# EAGLE library part SN74AHCT16373DGGR (library MM24I)
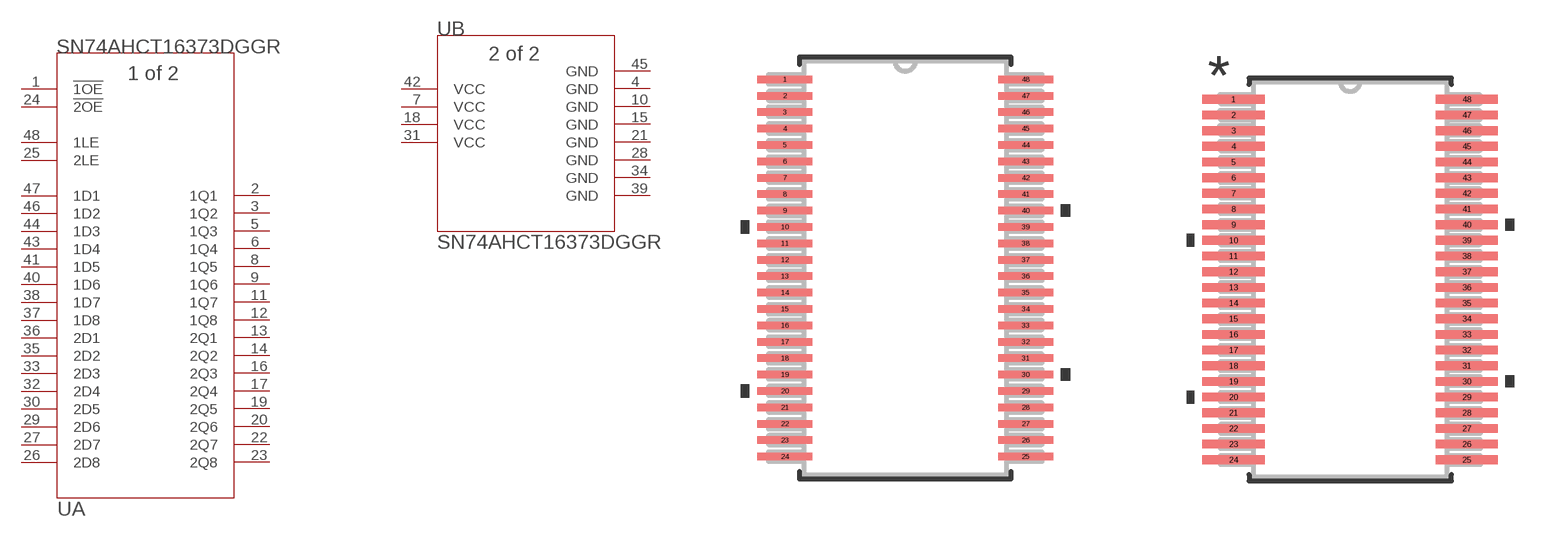
[diagram p1: symbol with the pads of DGG48; footprints DGG48, DGG48-M]

Designator prefix U; gates A=SN74AHCT16373DGGR B=SN74AHCT16373DGGR_A

## SN74AHCT16373DGGR (BUILT_BY: EMA_UL_Team; MANUFACTURER: Texas Instruments; MANUFACTURER_PART_NUMBER: SN74AHCT16373DGGR; VENDOR: Texas Instruments)  [DGG48]
1  A:!1OE  in
2  A:1Q1  out
3  A:1Q2  out
4  B:GND  pwr
5  A:1Q3  out
6  A:1Q4  out
7  B:VCC  pwr
8  A:1Q5  out
9  A:1Q6  out
10  B:GND  pwr
11  A:1Q7  out
12  A:1Q8  out
13  A:2Q1  out
14  A:2Q2  out
15  B:GND  pwr
16  A:2Q3  out
17  A:2Q4  out
18  B:VCC  pwr
19  A:2Q5  out
20  A:2Q6  out
21  B:GND  pwr
22  A:2Q7  out
23  A:2Q8  out
24  A:!2OE  in
25  A:2LE  in
26  A:2D8  in
27  A:2D7  in
28  B:GND  pwr
29  A:2D6  in
30  A:2D5  in
31  B:VCC  pwr
32  A:2D4  in
33  A:2D3  in
34  B:GND  pwr
35  A:2D2  in
36  A:2D1  in
37  A:1D8  in
38  A:1D7  in
39  B:GND  pwr
40  A:1D6  in
41  A:1D5  in
42  B:VCC  pwr
43  A:1D4  in
44  A:1D3  in
45  B:GND  pwr
46  A:1D2  in
47  A:1D1  in
48  A:1LE  in

## SN74AHCT16373DGGRDGG48-M (BUILT_BY: EMA_UL_Team; MANUFACTURER: Texas Instruments; MANUFACTURER_PART_NUMBER: SN74AHCT16373DGGR; VENDOR: Texas Instruments)  [DGG48-M]
Pads as for DGG48

## SN74AHCT16373DGGRDGG48-L (BUILT_BY: EMA_UL_Team; MANUFACTURER: Texas Instruments; MANUFACTURER_PART_NUMBER: SN74AHCT16373DGGR; VENDOR: Texas Instruments)  [DGG48-L]
Pads as for DGG48

## Footprint DGG48 (pad centres in mm)
smd 1.676 x 0.229: 1 -3.67,5.75; 2 -3.67,5.25; 3 -3.67,4.75; 4 -3.67,4.25; 5 -3.67,3.75; 6 -3.67,3.25; 7 -3.67,2.75; 8 -3.67,2.25; 9 -3.67,1.75; 10 -3.67,1.25; 11 -3.67,0.75; 12 -3.67,0.25; 13 -3.67,-0.25; 14 -3.67,-0.75; 15 -3.67,-1.25; 16 -3.67,-1.75; 17 -3.67,-2.25; 18 -3.67,-2.75; 19 -3.67,-3.25; 20 -3.67,-3.75; 21 -3.67,-4.25; 22 -3.67,-4.75; 23 -3.67,-5.25; 24 -3.67,-5.75; 25 3.67,-5.75; 26 3.67,-5.25; 27 3.67,-4.75; 28 3.67,-4.25; 29 3.67,-3.75; 30 3.67,-3.25; 31 3.67,-2.75; 32 3.67,-2.25; 33 3.67,-1.75; 34 3.67,-1.25; 35 3.67,-0.75; 36 3.67,-0.25; 37 3.67,0.25; 38 3.67,0.75; 39 3.67,1.25; 40 3.67,1.75; 41 3.67,2.25; 42 3.67,2.75; 43 3.67,3.25; 44 3.67,3.75; 45 3.67,4.25; 46 3.67,4.75; 47 3.67,5.25; 48 3.67,5.75

## Footprint DGG48-M (pad centres in mm)
smd 1.981 x 0.279: 1 -3.721,5.75; 2 -3.721,5.25; 3 -3.721,4.75; 4 -3.721,4.25; 5 -3.721,3.75; 6 -3.721,3.25; 7 -3.721,2.75; 8 -3.721,2.25; 9 -3.721,1.75; 10 -3.721,1.25; 11 -3.721,0.75; 12 -3.721,0.25; 13 -3.721,-0.25; 14 -3.721,-0.75; 15 -3.721,-1.25; 16 -3.721,-1.75; 17 -3.721,-2.25; 18 -3.721,-2.75; 19 -3.721,-3.25; 20 -3.721,-3.75; 21 -3.721,-4.25; 22 -3.721,-4.75; 23 -3.721,-5.25; 24 -3.721,-5.75; 25 3.721,-5.75; 26 3.721,-5.25; 27 3.721,-4.75; 28 3.721,-4.25; 29 3.721,-3.75; 30 3.721,-3.25; 31 3.721,-2.75; 32 3.721,-2.25; 33 3.721,-1.75; 34 3.721,-1.25; 35 3.721,-0.75; 36 3.721,-0.25; 37 3.721,0.25; 38 3.721,0.75; 39 3.721,1.25; 40 3.721,1.75; 41 3.721,2.25; 42 3.721,2.75; 43 3.721,3.25; 44 3.721,3.75; 45 3.721,4.25; 46 3.721,4.75; 47 3.721,5.25; 48 3.721,5.75

## Footprint DGG48-L (pad centres in mm)
smd 1.372 x 0.178: 1 -3.619,5.75; 2 -3.619,5.25; 3 -3.619,4.75; 4 -3.619,4.25; 5 -3.619,3.75; 6 -3.619,3.25; 7 -3.619,2.75; 8 -3.619,2.25; 9 -3.619,1.75; 10 -3.619,1.25; 11 -3.619,0.75; 12 -3.619,0.25; 13 -3.619,-0.25; 14 -3.619,-0.75; 15 -3.619,-1.25; 16 -3.619,-1.75; 17 -3.619,-2.25; 18 -3.619,-2.75; 19 -3.619,-3.25; 20 -3.619,-3.75; 21 -3.619,-4.25; 22 -3.619,-4.75; 23 -3.619,-5.25; 24 -3.619,-5.75; 25 3.619,-5.75; 26 3.619,-5.25; 27 3.619,-4.75; 28 3.619,-4.25; 29 3.619,-3.75; 30 3.619,-3.25; 31 3.619,-2.75; 32 3.619,-2.25; 33 3.619,-1.75; 34 3.619,-1.25; 35 3.619,-0.75; 36 3.619,-0.25; 37 3.619,0.25; 38 3.619,0.75; 39 3.619,1.25; 40 3.619,1.75; 41 3.619,2.25; 42 3.619,2.75; 43 3.619,3.25; 44 3.619,3.75; 45 3.619,4.25; 46 3.619,4.75; 47 3.619,5.25; 48 3.619,5.75